# EAGLE library part EP3C40-FBGA484 (library altera)
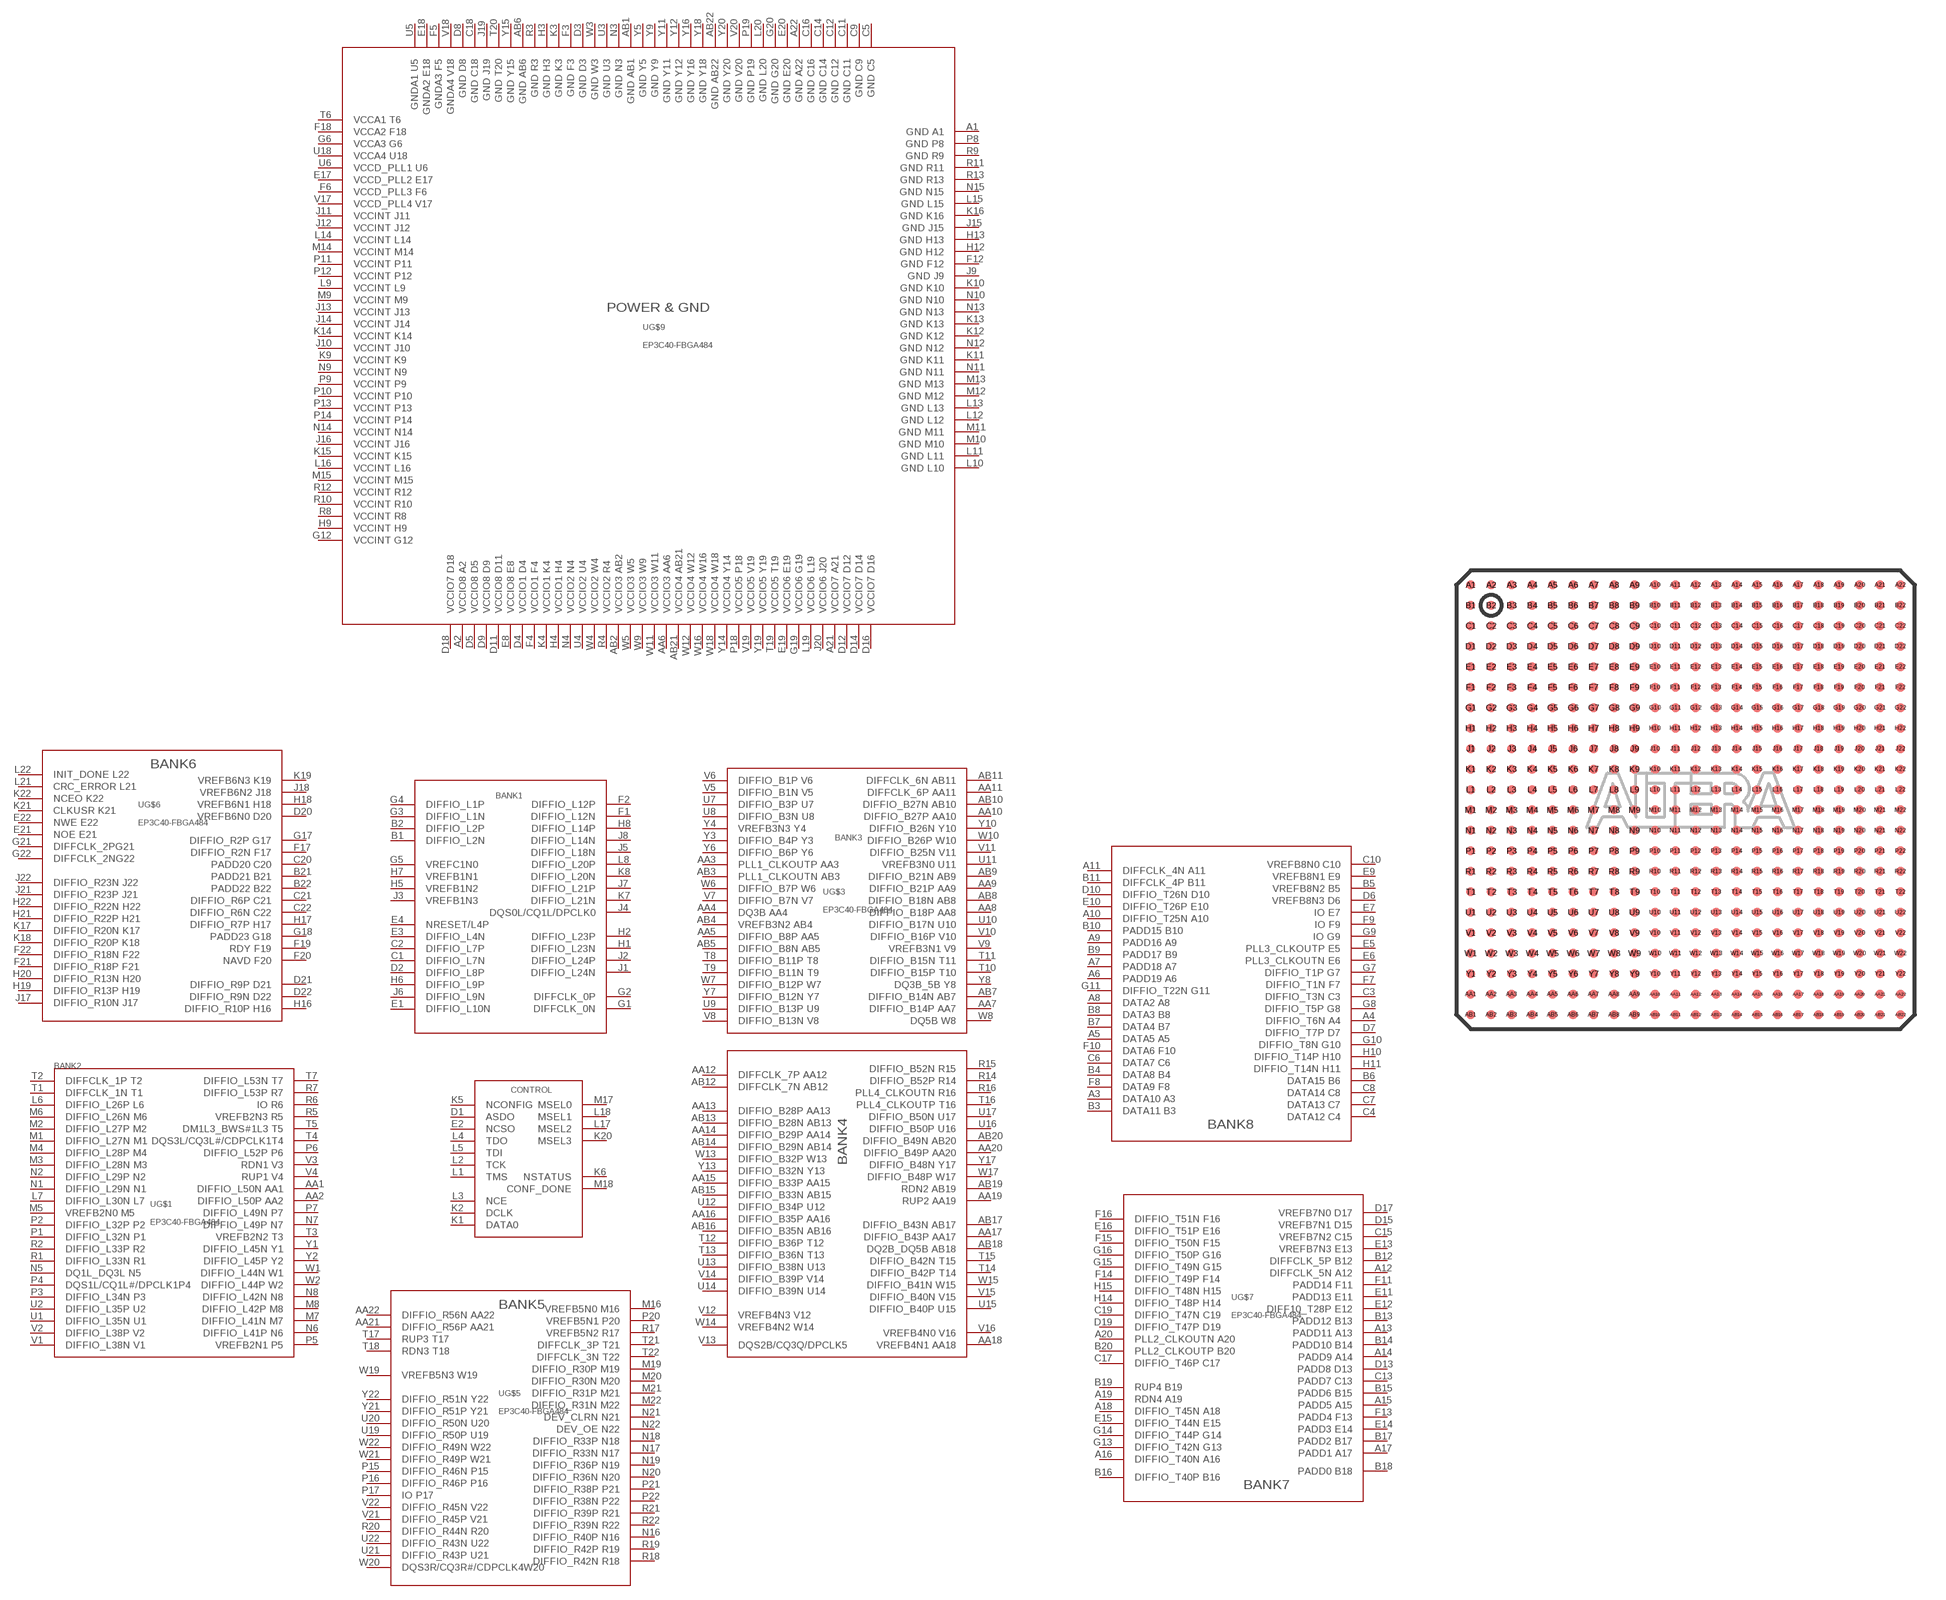
[diagram p59: symbol with the pads of FBGA484; footprint FBGA484]

Designator prefix -; gates G$1=BANK2 G$2=C6 G$3=BANK3 G$4=BANK4 G$5=BANK5 G$6=BANK6 G$7=BANK7 G$8=BANK8 G$9=VCC_GND

## EP3C40-FBGA484  [FBGA484]
A1  G$9:GND	A1
A2  G$9:VCCIO8	A2
A3  G$8:DATA10	A3
A4  G$8:DIFFIO_T6N	A4
A5  G$8:DATA5	A5
A6  G$8:PADD19	A6
A7  G$8:PADD18	A7
A8  G$8:DATA2	A8
A9  G$8:PADD16	A9
A10  G$8:DIFFIO_T25N	A10
A11  G$8:DIFFCLK_4N	A11
A12  G$7:DIFFCLK_5N	A12
A13  G$7:PADD11	A13
A14  G$7:PADD9	A14
A15  G$7:PADD5	A15
A16  G$7:DIFFIO_T40N	A16
A17  G$7:PADD1	A17
A18  G$7:DIFFIO_T45N	A18
A19  G$7:RDN4	A19
A20  G$7:PLL2_CLKOUTN	A20
A21  G$9:VCCIO7	A21
A22  G$9:GND	A22
AA1  G$1:DIFFIO_L50N	AA1
AA2  G$1:DIFFIO_L50P	AA2
AA3  G$3:PLL1_CLKOUTP	AA3
AA4  G$3:DQ3B	AA4
AA5  G$3:DIFFIO_B8P	AA5
AA6  G$9:VCCIO3	AA6
AA7  G$3:DIFFIO_B14P	AA7
AA8  G$3:DIFFIO_B18P	AA8
AA9  G$3:DIFFIO_B21P	AA9
AA10  G$3:DIFFIO_B27P	AA10
AA11  G$3:DIFFCLK_6P	AA11
AA12  G$4:DIFFCLK_7P	AA12
AA13  G$4:DIFFIO_B28P	AA13
AA14  G$4:DIFFIO_B29P	AA14
AA15  G$4:DIFFIO_B33P	AA15
AA16  G$4:DIFFIO_B35P	AA16
AA17  G$4:DIFFIO_B43P	AA17
AA18  G$4:VREFB4N1	AA18
AA19  G$4:RUP2	AA19
AA20  G$4:DIFFIO_B49P	AA20
AA21  G$5:DIFFIO_R56P	AA21
AA22  G$5:DIFFIO_R56N	AA22
AB1  G$9:GND	AB1
AB2  G$9:VCCIO3	AB2
AB3  G$3:PLL1_CLKOUTN	AB3
AB4  G$3:VREFB3N2	AB4
AB5  G$3:DIFFIO_B8N	AB5
AB6  G$9:GND	AB6
AB7  G$3:DIFFIO_B14N	AB7
AB8  G$3:DIFFIO_B18N	AB8
AB9  G$3:DIFFIO_B21N	AB9
AB10  G$3:DIFFIO_B27N	AB10
AB11  G$3:DIFFCLK_6N	AB11
AB12  G$4:DIFFCLK_7N	AB12
AB13  G$4:DIFFIO_B28N	AB13
AB14  G$4:DIFFIO_B29N	AB14
AB15  G$4:DIFFIO_B33N	AB15
AB16  G$4:DIFFIO_B35N	AB16
AB17  G$4:DIFFIO_B43N	AB17
AB18  G$4:DQ2B_DQ5B	AB18
AB19  G$4:RDN2	AB19
AB20  G$4:DIFFIO_B49N	AB20
AB21  G$9:VCCIO4	AB21
AB22  G$9:GND	AB22
B1  G$2:DIFFIO_L2N
B2  G$2:DIFFIO_L2P
B3  G$8:DATA11	B3
B4  G$8:DATA8	B4
B5  G$8:VREFB8N2	B5
B6  G$8:DATA15	B6
B7  G$8:DATA4	B7
B8  G$8:DATA3	B8
B9  G$8:PADD17	B9
B10  G$8:PADD15	B10
B11  G$8:DIFFCLK_4P	B11
B12  G$7:DIFFCLK_5P	B12
B13  G$7:PADD12	B13
B14  G$7:PADD10	B14
B15  G$7:PADD6	B15
B16  G$7:DIFFIO_T40P	B16
B17  G$7:PADD2	B17
B18  G$7:PADD0	B18
B19  G$7:RUP4	B19
B20  G$7:PLL2_CLKOUTP	B20
B21  G$6:PADD21	B21
B22  G$6:PADD22	B22
C1  G$2:DIFFIO_L7N
C2  G$2:DIFFIO_L7P
C3  G$8:DIFFIO_T3N	C3
C4  G$8:DATA12	C4
C5  G$9:GND	C5
C6  G$8:DATA7	C6
C7  G$8:DATA13	C7
C8  G$8:DATA14	C8
C9  G$9:GND	C9
C10  G$8:VREFB8N0	C10
C11  G$9:GND	C11
C12  G$9:GND	C12
C13  G$7:PADD7	C13
C14  G$9:GND	C14
C15  G$7:VREFB7N2	C15
C16  G$9:GND	C16
C17  G$7:DIFFIO_T46P	C17
C18  G$9:GND	C18
C19  G$7:DIFFIO_T47N	C19
C20  G$6:PADD20	C20
C21  G$6:DIFFIO_R6P	C21
C22  G$6:DIFFIO_R6N	C22
D1  G$2:ASDO
D2  G$2:DIFFIO_L8P
D3  G$9:GND	D3
D4  G$9:VCCIO1	D4
D5  G$9:VCCIO8	D5
D6  G$8:VREFB8N3	D6
D7  G$8:DIFFIO_T7P	D7
D8  G$9:GND	D8
D9  G$9:VCCIO8	D9
D10  G$8:DIFFIO_T26N	D10
D11  G$9:VCCIO8	D11
D12  G$9:VCCIO7	D12
D13  G$7:PADD8	D13
D14  G$9:VCCIO7	D14
D15  G$7:VREFB7N1	D15
D16  G$9:VCCIO7	D16
D17  G$7:VREFB7N0	D17
D18  G$9:VCCIO7	D18
D19  G$7:DIFFIO_T47P	D19
D20  G$6:VREFB6N0	D20
D21  G$6:DIFFIO_R9P	D21
D22  G$6:DIFFIO_R9N	D22
E1  G$2:DIFFIO_L10N
E2  G$2:NCSO
E3  G$2:DIFFIO_L4N
E4  G$2:NRESET/L4P
E5  G$8:PLL3_CLKOUTP	E5
E6  G$8:PLL3_CLKOUTN	E6
E7  G$8:IO	E7
E8  G$9:VCCIO8	E8
E9  G$8:VREFB8N1	E9
E10  G$8:DIFFIO_T26P	E10
E11  G$7:PADD13	E11
E12  G$7:DIFF10_T28P	E12
E13  G$7:VREFB7N3	E13
E14  G$7:PADD3	E14
E15  G$7:DIFFIO_T44N	E15
E16  G$7:DIFFIO_T51P	E16
E17  G$9:VCCD_PLL2	E17
E18  G$9:GNDA2	E18
E19  G$9:VCCIO6	E19
E20  G$9:GND	E20
E21  G$6:NOE	E21
E22  G$6:NWE	E22
F1  G$2:DIFFIO_L12N
F2  G$2:DIFFIO_L12P
F3  G$9:GND	F3
F4  G$9:VCCIO1	F4
F5  G$9:GNDA3	F5
F6  G$9:VCCD_PLL3	F6
F7  G$8:DIFFIO_T1N	F7
F8  G$8:DATA9	F8
F9  G$8:IO	F9
F10  G$8:DATA6	F10
F11  G$7:PADD14	F11
F12  G$9:GND	F12
F13  G$7:PADD4	F13
F14  G$7:DIFFIO_T49P	F14
F15  G$7:DIFFIO_T50N	F15
F16  G$7:DIFFIO_T51N	F16
F17  G$6:DIFFIO_R2N	F17
F18  G$9:VCCA2	F18
F19  G$6:RDY	F19
F20  G$6:NAVD	F20
F21  G$6:DIFFIO_R18P	F21
F22  G$6:DIFFIO_R18N	F22
G1  G$2:DIFFCLK_0N
G2  G$2:DIFFCLK_0P
G3  G$2:DIFFIO_L1N
G4  G$2:DIFFIO_L1P
G5  G$2:VREFC1N0
G6  G$9:VCCA3	G6
G7  G$8:DIFFIO_T1P	G7
G8  G$8:DIFFIO_T5P	G8
G9  G$8:IO	G9
G10  G$8:DIFFIO_T8N	G10
G11  G$8:DIFFIO_T22N	G11
G12  G$9:VCCINT	G12
G13  G$7:DIFFIO_T42N	G13
G14  G$7:DIFFIO_T44P	G14
G15  G$7:DIFFIO_T49N	G15
G16  G$7:DIFFIO_T50P	G16
G17  G$6:DIFFIO_R2P	G17
G18  G$6:PADD23	G18
G19  G$9:VCCIO6	G19
G20  G$9:GND	G20
G21  G$6:DIFFCLK_2PG21
G22  G$6:DIFFCLK_2NG22
H1  G$2:DIFFIO_L23N
H2  G$2:DIFFIO_L23P
H3  G$9:GND	H3
H4  G$9:VCCIO1	H4
H5  G$2:VREFB1N2
H6  G$2:DIFFIO_L9P
H7  G$2:VREFB1N1
H8  G$2:DIFFIO_L14P
H9  G$9:VCCINT	H9
H10  G$8:DIFFIO_T14P	H10
H11  G$8:DIFFIO_T14N	H11
H12  G$9:GND	H12
H13  G$9:GND	H13
H14  G$7:DIFFIO_T48P	H14
H15  G$7:DIFFIO_T48N	H15
H16  G$6:DIFFIO_R10P	H16
H17  G$6:DIFFIO_R7P	H17
H18  G$6:VREFB6N1	H18
H19  G$6:DIFFIO_R13P	H19
H20  G$6:DIFFIO_R13N	H20
H21  G$6:DIFFIO_R22P	H21
H22  G$6:DIFFIO_R22N	H22
J1  G$2:DIFFIO_L24N
J2  G$2:DIFFIO_L24P
J3  G$2:VREFB1N3
J4  G$2:DQS0L/CQ1L/DPCLK0
J5  G$2:DIFFIO_L18N
J6  G$2:DIFFIO_L9N
J7  G$2:DIFFIO_L21P
J8  G$2:DIFFIO_L14N
J9  G$9:GND	J9
J10  G$9:VCCINT	J10
J11  G$9:VCCINT	J11
J12  G$9:VCCINT	J12
J13  G$9:VCCINT	J13
J14  G$9:VCCINT	J14
J15  G$9:GND	J15
J16  G$9:VCCINT	J16
J17  G$6:DIFFIO_R10N	J17
J18  G$6:VREFB6N2	J18
J19  G$9:GND	J19
J20  G$9:VCCIO6	J20
J21  G$6:DIFFIO_R23P	J21
J22  G$6:DIFFIO_R23N	J22
K1  G$2:DATA0
K2  G$2:DCLK
K3  G$9:GND	K3
K4  G$9:VCCIO1	K4
K5  G$2:NCONFIG
K6  G$2:NSTATUS
K7  G$2:DIFFIO_L21N
K8  G$2:DIFFIO_L20N
K9  G$9:VCCINT	K9
K10  G$9:GND	K10
K11  G$9:GND	K11
K12  G$9:GND	K12
K13  G$9:GND	K13
K14  G$9:VCCINT	K14
K15  G$9:VCCINT	K15
K16  G$9:GND	K16
K17  G$6:DIFFIO_R20N	K17
K18  G$6:DIFFIO_R20P	K18
K19  G$6:VREFB6N3	K19
K20  G$2:MSEL3
K21  G$6:CLKUSR	K21
K22  G$6:NCEO	K22
L1  G$2:TMS
L2  G$2:TCK
L3  G$2:NCE
L4  G$2:TDO
L5  G$2:TDI
L6  G$1:DIFFIO_L26P	L6
L7  G$1:DIFFIO_L30N	L7
L8  G$2:DIFFIO_L20P
L9  G$9:VCCINT	L9
L10  G$9:GND	L10
L11  G$9:GND	L11
L12  G$9:GND	L12
L13  G$9:GND	L13
L14  G$9:VCCINT	L14
L15  G$9:GND	L15
L16  G$9:VCCINT	L16
L17  G$2:MSEL2
L18  G$2:MSEL1
L19  G$9:VCCIO6	L19
L20  G$9:GND	L20
L21  G$6:CRC_ERROR	L21
L22  G$6:INIT_DONE	L22
M1  G$1:DIFFIO_L27N	M1
M2  G$1:DIFFIO_L27P	M2
M3  G$1:DIFFIO_L28N	M3
M4  G$1:DIFFIO_L28P	M4
M5  G$1:VREFB2N0	M5
M6  G$1:DIFFIO_L26N	M6
M7  G$1:DIFFIO_L41N	M7
M8  G$1:DIFFIO_L42P	M8
M9  G$9:VCCINT	M9
M10  G$9:GND	M10
M11  G$9:GND	M11
M12  G$9:GND	M12
M13  G$9:GND	M13
M14  G$9:VCCINT	M14
M15  G$9:VCCINT	M15
M16  G$5:VREFB5N0	M16
M17  G$2:MSEL0
M18  G$2:CONF_DONE
M19  G$5:DIFFIO_R30P	M19
M20  G$5:DIFFIO_R30N	M20
M21  G$5:DIFFIO_R31P	M21
M22  G$5:DIFFIO_R31N	M22
N1  G$1:DIFFIO_L29N	N1
N2  G$1:DIFFIO_L29P	N2
N3  G$9:GND	N3
N4  G$9:VCCIO2	N4
N5  G$1:DQ1L_DQ3L	N5
N6  G$1:DIFFIO_L41P	N6
N7  G$1:DIFFIO_L49P	N7
N8  G$1:DIFFIO_L42N	N8
N9  G$9:VCCINT	N9
N10  G$9:GND	N10
N11  G$9:GND	N11
N12  G$9:GND	N12
N13  G$9:GND	N13
N14  G$9:VCCINT	N14
N15  G$9:GND	N15
N16  G$5:DIFFIO_R40P	N16
N17  G$5:DIFFIO_R33N	N17
N18  G$5:DIFFIO_R33P	N18
N19  G$5:DIFFIO_R36P	N19
N20  G$5:DIFFIO_R36N	N20
N21  G$5:DEV_CLRN	N21
N22  G$5:DEV_OE	N22
P1  G$1:DIFFIO_L32N	P1
P2  G$1:DIFFIO_L32P	P2
P3  G$1:DIFFIO_L34N	P3
P4  G$1:DQS1L/CQ1L#/DPCLK1P4
P5  G$1:VREFB2N1	P5
P6  G$1:DIFFIO_L52P	P6
P7  G$1:DIFFIO_L49N	P7
P8  G$9:GND	P8
P9  G$9:VCCINT	P9
P10  G$9:VCCINT	P10
P11  G$9:VCCINT	P11
P12  G$9:VCCINT	P12
P13  G$9:VCCINT	P13
P14  G$9:VCCINT	P14
P15  G$5:DIFFIO_R46N	P15
P16  G$5:DIFFIO_R46P	P16
P17  G$5:IO	P17
P18  G$9:VCCIO5	P18
P19  G$9:GND	P19
P20  G$5:VREFB5N1	P20
P21  G$5:DIFFIO_R38P	P21
P22  G$5:DIFFIO_R38N	P22
R1  G$1:DIFFIO_L33N	R1
R2  G$1:DIFFIO_L33P	R2
R3  G$9:GND	R3
R4  G$9:VCCIO2	R4
R5  G$1:VREFB2N3	R5
R6  G$1:IO	R6
R7  G$1:DIFFIO_L53P	R7
R8  G$9:VCCINT	R8
R9  G$9:GND	R9
R10  G$9:VCCINT	R10
R11  G$9:GND	R11
R12  G$9:VCCINT	R12
R13  G$9:GND	R13
R14  G$4:DIFFIO_B52P	R14
R15  G$4:DIFFIO_B52N	R15
R16  G$4:PLL4_CLKOUTN	R16
R17  G$5:VREFB5N2	R17
R18  G$5:DIFFIO_R42N	R18
R19  G$5:DIFFIO_R42P	R19
R20  G$5:DIFFIO_R44N	R20
R21  G$5:DIFFIO_R39P	R21
R22  G$5:DIFFIO_R39N	R22
T1  G$1:DIFFCLK_1N	T1
T2  G$1:DIFFCLK_1P	T2
T3  G$1:VREFB2N2	T3
T4  G$1:DQS3L/CQ3L#/CDPCLK1T4
T5  G$1:DM1L3_BWS#1L3	T5
T6  G$9:VCCA1	T6
T7  G$1:DIFFIO_L53N	T7
T8  G$3:DIFFIO_B11P	T8
T9  G$3:DIFFIO_B11N	T9
T10  G$3:DIFFIO_B15P	T10
T11  G$3:DIFFIO_B15N	T11
T12  G$4:DIFFIO_B36P	T12
T13  G$4:DIFFIO_B36N	T13
T14  G$4:DIFFIO_B42P	T14
T15  G$4:DIFFIO_B42N	T15
T16  G$4:PLL4_CLKOUTP	T16
T17  G$5:RUP3	T17
T18  G$5:RDN3	T18
T19  G$9:VCCIO5	T19
T20  G$9:GND	T20
T21  G$5:DIFFCLK_3P	T21
T22  G$5:DIFFCLK_3N	T22
U1  G$1:DIFFIO_L35N	U1
U2  G$1:DIFFIO_L35P	U2
U3  G$9:GND	U3
U4  G$9:VCCIO2	U4
U5  G$9:GNDA1	U5
U6  G$9:VCCD_PLL1	U6
U7  G$3:DIFFIO_B3P	U7
U8  G$3:DIFFIO_B3N	U8
U9  G$3:DIFFIO_B13P	U9
U10  G$3:DIFFIO_B17N	U10
U11  G$3:VREFB3N0	U11
U12  G$4:DIFFIO_B34P	U12
U13  G$4:DIFFIO_B38N	U13
U14  G$4:DIFFIO_B39N	U14
U15  G$4:DIFFIO_B40P	U15
U16  G$4:DIFFIO_B50P	U16
U17  G$4:DIFFIO_B50N	U17
U18  G$9:VCCA4	U18
U19  G$5:DIFFIO_R50P	U19
U20  G$5:DIFFIO_R50N	U20
U21  G$5:DIFFIO_R43P	U21
U22  G$5:DIFFIO_R43N	U22
V1  G$1:DIFFIO_L38N	V1
V2  G$1:DIFFIO_L38P	V2
V3  G$1:RDN1	V3
V4  G$1:RUP1	V4
V5  G$3:DIFFIO_B1N	V5
V6  G$3:DIFFIO_B1P	V6
V7  G$3:DIFFIO_B7N	V7
V8  G$3:DIFFIO_B13N	V8
V9  G$3:VREFB3N1	V9
V10  G$3:DIFFIO_B16P	V10
V11  G$3:DIFFIO_B25N	V11
V12  G$4:VREFB4N3	V12
V13  G$4:DQS2B/CQ3Q/DPCLK5
V14  G$4:DIFFIO_B39P	V14
V15  G$4:DIFFIO_B40N	V15
V16  G$4:VREFB4N0	V16
V17  G$9:VCCD_PLL4	V17
V18  G$9:GNDA4	V18
V19  G$9:VCCIO5	V19
V20  G$9:GND	V20
V21  G$5:DIFFIO_R45P	V21
V22  G$5:DIFFIO_R45N	V22
W1  G$1:DIFFIO_L44N	W1
W2  G$1:DIFFIO_L44P	W2
W3  G$9:GND	W3
W4  G$9:VCCIO2	W4
W5  G$9:VCCIO3	W5
W6  G$3:DIFFIO_B7P	W6
W7  G$3:DIFFIO_B12P	W7
W8  G$3:DQ5B	W8
W9  G$9:VCCIO3	W9
W10  G$3:DIFFIO_B26P	W10
W11  G$9:VCCIO3	W11
W12  G$9:VCCIO4	W12
W13  G$4:DIFFIO_B32P	W13
W14  G$4:VREFB4N2	W14
W15  G$4:DIFFIO_B41N	W15
W16  G$9:VCCIO4	W16
W17  G$4:DIFFIO_B48P	W17
W18  G$9:VCCIO4	W18
W19  G$5:VREFB5N3	W19
W20  G$5:DQS3R/CQ3R#/CDPCLK4W20
W21  G$5:DIFFIO_R49P	W21
W22  G$5:DIFFIO_R49N	W22
Y1  G$1:DIFFIO_L45N	Y1
Y2  G$1:DIFFIO_L45P	Y2
Y3  G$3:DIFFIO_B4P	Y3
Y4  G$3:VREFB3N3	Y4
Y5  G$9:GND	Y5
Y6  G$3:DIFFIO_B6P	Y6
Y7  G$3:DIFFIO_B12N	Y7
Y8  G$3:DQ3B_5B	Y8
Y9  G$9:GND	Y9
Y10  G$3:DIFFIO_B26N	Y10
Y11  G$9:GND	Y11
Y12  G$9:GND	Y12
Y13  G$4:DIFFIO_B32N	Y13
Y14  G$9:VCCIO4	Y14
Y15  G$9:GND	Y15
Y16  G$9:GND	Y16
Y17  G$4:DIFFIO_B48N	Y17
Y18  G$9:GND	Y18
Y19  G$9:VCCIO5	Y19
Y20  G$9:GND	Y20
Y21  G$5:DIFFIO_R51P	Y21
Y22  G$5:DIFFIO_R51N	Y22

## Footprint FBGA484 (pad centres in mm)
Fine Ball Grid Array
smd 0.45 x 0.45: A1 -10.5,10.5; A2 -9.5,10.5; A3 -8.5,10.5; A4 -7.5,10.5; A5 -6.5,10.5; A6 -5.5,10.5; A7 -4.5,10.5; A8 -3.5,10.5; A9 -2.5,10.5; A10 -1.5,10.5; A11 -0.5,10.5; A12 0.5,10.5; A13 1.5,10.5; A14 2.5,10.5; A15 3.5,10.5; A16 4.5,10.5; A17 5.5,10.5; A18 6.5,10.5; A19 7.5,10.5; A20 8.5,10.5; A21 9.5,10.5; A22 10.5,10.5; AA1 -10.5,-9.5; AA2 -9.5,-9.5; AA3 -8.5,-9.5; AA4 -7.5,-9.5; AA5 -6.5,-9.5; AA6 -5.5,-9.5; AA7 -4.5,-9.5; AA8 -3.5,-9.5; AA9 -2.5,-9.5; AA10 -1.5,-9.5; AA11 -0.5,-9.5; AA12 0.5,-9.5; AA13 1.5,-9.5; AA14 2.5,-9.5; AA15 3.5,-9.5; AA16 4.5,-9.5; AA17 5.5,-9.5; AA18 6.5,-9.5; AA19 7.5,-9.5; AA20 8.5,-9.5; AA21 9.5,-9.5; AA22 10.5,-9.5; AB1 -10.5,-10.5; AB2 -9.5,-10.5; AB3 -8.5,-10.5; AB4 -7.5,-10.5; AB5 -6.5,-10.5; AB6 -5.5,-10.5; AB7 -4.5,-10.5; AB8 -3.5,-10.5; AB9 -2.5,-10.5; AB10 -1.5,-10.5; AB11 -0.5,-10.5; AB12 0.5,-10.5; AB13 1.5,-10.5; AB14 2.5,-10.5; AB15 3.5,-10.5; AB16 4.5,-10.5; AB17 5.5,-10.5; AB18 6.5,-10.5; AB19 7.5,-10.5; AB20 8.5,-10.5; AB21 9.5,-10.5; AB22 10.5,-10.5; B1 -10.5,9.5; B2 -9.5,9.5; B3 -8.5,9.5; B4 -7.5,9.5; B5 -6.5,9.5; B6 -5.5,9.5; B7 -4.5,9.5; B8 -3.5,9.5; B9 -2.5,9.5; B10 -1.5,9.5; B11 -0.5,9.5; B12 0.5,9.5; B13 1.5,9.5; B14 2.5,9.5; B15 3.5,9.5; B16 4.5,9.5; B17 5.5,9.5; B18 6.5,9.5; B19 7.5,9.5; B20 8.5,9.5; B21 9.5,9.5; B22 10.5,9.5; C1 -10.5,8.5; C2 -9.5,8.5; C3 -8.5,8.5; C4 -7.5,8.5; C5 -6.5,8.5; C6 -5.5,8.5; C7 -4.5,8.5; C8 -3.5,8.5; C9 -2.5,8.5; C10 -1.5,8.5; C11 -0.5,8.5; C12 0.5,8.5; C13 1.5,8.5; C14 2.5,8.5; C15 3.5,8.5; C16 4.5,8.5; C17 5.5,8.5; C18 6.5,8.5; C19 7.5,8.5; C20 8.5,8.5; C21 9.5,8.5; C22 10.5,8.5; D1 -10.5,7.5; D2 -9.5,7.5; D3 -8.5,7.5; D4 -7.5,7.5; D5 -6.5,7.5; D6 -5.5,7.5; D7 -4.5,7.5; D8 -3.5,7.5; D9 -2.5,7.5; D10 -1.5,7.5; D11 -0.5,7.5; D12 0.5,7.5; D13 1.5,7.5; D14 2.5,7.5; D15 3.5,7.5; D16 4.5,7.5; D17 5.5,7.5; D18 6.5,7.5; D19 7.5,7.5; D20 8.5,7.5; D21 9.5,7.5; D22 10.5,7.5; E1 -10.5,6.5; E2 -9.5,6.5; E3 -8.5,6.5; E4 -7.5,6.5; E5 -6.5,6.5; E6 -5.5,6.5; E7 -4.5,6.5; E8 -3.5,6.5; E9 -2.5,6.5; E10 -1.5,6.5; E11 -0.5,6.5; E12 0.5,6.5; E13 1.5,6.5; E14 2.5,6.5; E15 3.5,6.5; E16 4.5,6.5; E17 5.5,6.5; E18 6.5,6.5; E19 7.5,6.5; E20 8.5,6.5; E21 9.5,6.5; E22 10.5,6.5; F1 -10.5,5.5; F2 -9.5,5.5; F3 -8.5,5.5; F4 -7.5,5.5; F5 -6.5,5.5; F6 -5.5,5.5; F7 -4.5,5.5; F8 -3.5,5.5; F9 -2.5,5.5; F10 -1.5,5.5; F11 -0.5,5.5; F12 0.5,5.5; F13 1.5,5.5; F14 2.5,5.5; F15 3.5,5.5; F16 4.5,5.5; F17 5.5,5.5; F18 6.5,5.5; F19 7.5,5.5; F20 8.5,5.5; F21 9.5,5.5; F22 10.5,5.5; G1 -10.5,4.5; G2 -9.5,4.5; G3 -8.5,4.5; G4 -7.5,4.5; G5 -6.5,4.5; G6 -5.5,4.5; G7 -4.5,4.5; G8 -3.5,4.5; G9 -2.5,4.5; G10 -1.5,4.5; G11 -0.5,4.5; G12 0.5,4.5; G13 1.5,4.5; G14 2.5,4.5; G15 3.5,4.5; G16 4.5,4.5; G17 5.5,4.5; G18 6.5,4.5; G19 7.5,4.5; G20 8.5,4.5; G21 9.5,4.5; G22 10.5,4.5; H1 -10.5,3.5; H2 -9.5,3.5; H3 -8.5,3.5; H4 -7.5,3.5; H5 -6.5,3.5; H6 -5.5,3.5; H7 -4.5,3.5; H8 -3.5,3.5; H9 -2.5,3.5; H10 -1.5,3.5; H11 -0.5,3.5; H12 0.5,3.5; H13 1.5,3.5; H14 2.5,3.5; H15 3.5,3.5; H16 4.5,3.5; H17 5.5,3.5; H18 6.5,3.5; H19 7.5,3.5; H20 8.5,3.5; H21 9.5,3.5; H22 10.5,3.5; J1 -10.5,2.5; J2 -9.5,2.5; J3 -8.5,2.5; J4 -7.5,2.5; J5 -6.5,2.5; J6 -5.5,2.5; J7 -4.5,2.5; J8 -3.5,2.5; J9 -2.5,2.5; J10 -1.5,2.5; J11 -0.5,2.5; J12 0.5,2.5; J13 1.5,2.5; J14 2.5,2.5; J15 3.5,2.5; J16 4.5,2.5; J17 5.5,2.5; J18 6.5,2.5; J19 7.5,2.5; J20 8.5,2.5; J21 9.5,2.5; J22 10.5,2.5; K1 -10.5,1.5; K2 -9.5,1.5; K3 -8.5,1.5; K4 -7.5,1.5; K5 -6.5,1.5; K6 -5.5,1.5; K7 -4.5,1.5; K8 -3.5,1.5; K9 -2.5,1.5; K10 -1.5,1.5; K11 -0.5,1.5; K12 0.5,1.5; K13 1.5,1.5; K14 2.5,1.5; K15 3.5,1.5; K16 4.5,1.5; K17 5.5,1.5; K18 6.5,1.5; K19 7.5,1.5; K20 8.5,1.5; K21 9.5,1.5; K22 10.5,1.5; L1 -10.5,0.5; L2 -9.5,0.5; L3 -8.5,0.5; L4 -7.5,0.5; L5 -6.5,0.5; L6 -5.5,0.5; L7 -4.5,0.5; L8 -3.5,0.5; L9 -2.5,0.5; L10 -1.5,0.5; L11 -0.5,0.5; L12 0.5,0.5; L13 1.5,0.5; L14 2.5,0.5; L15 3.5,0.5; L16 4.5,0.5; L17 5.5,0.5; L18 6.5,0.5; L19 7.5,0.5; L20 8.5,0.5; L21 9.5,0.5; L22 10.5,0.5; M1 -10.5,-0.5; M2 -9.5,-0.5; M3 -8.5,-0.5; M4 -7.5,-0.5; M5 -6.5,-0.5; M6 -5.5,-0.5; M7 -4.5,-0.5; M8 -3.5,-0.5; M9 -2.5,-0.5; M10 -1.5,-0.5; M11 -0.5,-0.5; M12 0.5,-0.5; M13 1.5,-0.5; M14 2.5,-0.5; M15 3.5,-0.5; M16 4.5,-0.5; M17 5.5,-0.5; M18 6.5,-0.5; M19 7.5,-0.5; M20 8.5,-0.5; M21 9.5,-0.5; M22 10.5,-0.5; N1 -10.5,-1.5; N2 -9.5,-1.5; N3 -8.5,-1.5; N4 -7.5,-1.5; N5 -6.5,-1.5; N6 -5.5,-1.5; N7 -4.5,-1.5; N8 -3.5,-1.5; N9 -2.5,-1.5; N10 -1.5,-1.5; N11 -0.5,-1.5; N12 0.5,-1.5; N13 1.5,-1.5; N14 2.5,-1.5; N15 3.5,-1.5; N16 4.5,-1.5; N17 5.5,-1.5; N18 6.5,-1.5; N19 7.5,-1.5; N20 8.5,-1.5; N21 9.5,-1.5; N22 10.5,-1.5; P1 -10.5,-2.5; P2 -9.5,-2.5; P3 -8.5,-2.5; P4 -7.5,-2.5; P5 -6.5,-2.5; P6 -5.5,-2.5; P7 -4.5,-2.5; P8 -3.5,-2.5; P9 -2.5,-2.5; P10 -1.5,-2.5; P11 -0.5,-2.5; P12 0.5,-2.5; P13 1.5,-2.5; P14 2.5,-2.5; P15 3.5,-2.5; P16 4.5,-2.5; P17 5.5,-2.5; P18 6.5,-2.5; P19 7.5,-2.5; P20 8.5,-2.5; P21 9.5,-2.5; P22 10.5,-2.5; R1 -10.5,-3.5; R2 -9.5,-3.5; R3 -8.5,-3.5; R4 -7.5,-3.5; R5 -6.5,-3.5; R6 -5.5,-3.5; R7 -4.5,-3.5; R8 -3.5,-3.5; R9 -2.5,-3.5; R10 -1.5,-3.5; R11 -0.5,-3.5; R12 0.5,-3.5; R13 1.5,-3.5; R14 2.5,-3.5; R15 3.5,-3.5; R16 4.5,-3.5; R17 5.5,-3.5; R18 6.5,-3.5; R19 7.5,-3.5; R20 8.5,-3.5; R21 9.5,-3.5; R22 10.5,-3.5; T1 -10.5,-4.5; T2 -9.5,-4.5; T3 -8.5,-4.5; T4 -7.5,-4.5; T5 -6.5,-4.5; T6 -5.5,-4.5; T7 -4.5,-4.5; T8 -3.5,-4.5; T9 -2.5,-4.5; T10 -1.5,-4.5; T11 -0.5,-4.5; T12 0.5,-4.5; T13 1.5,-4.5; T14 2.5,-4.5; T15 3.5,-4.5; T16 4.5,-4.5; T17 5.5,-4.5; T18 6.5,-4.5; T19 7.5,-4.5; T20 8.5,-4.5; T21 9.5,-4.5; T22 10.5,-4.5; U1 -10.5,-5.5; U2 -9.5,-5.5; U3 -8.5,-5.5; U4 -7.5,-5.5; U5 -6.5,-5.5; U6 -5.5,-5.5; U7 -4.5,-5.5; U8 -3.5,-5.5; U9 -2.5,-5.5; U10 -1.5,-5.5; U11 -0.5,-5.5; U12 0.5,-5.5; U13 1.5,-5.5; U14 2.5,-5.5; U15 3.5,-5.5; U16 4.5,-5.5; U17 5.5,-5.5; U18 6.5,-5.5; U19 7.5,-5.5; U20 8.5,-5.5; U21 9.5,-5.5; U22 10.5,-5.5; V1 -10.5,-6.5; V2 -9.5,-6.5; V3 -8.5,-6.5; V4 -7.5,-6.5; V5 -6.5,-6.5; V6 -5.5,-6.5; V7 -4.5,-6.5; V8 -3.5,-6.5; V9 -2.5,-6.5; V10 -1.5,-6.5; V11 -0.5,-6.5; V12 0.5,-6.5; V13 1.5,-6.5; V14 2.5,-6.5; V15 3.5,-6.5; V16 4.5,-6.5; V17 5.5,-6.5; V18 6.5,-6.5; V19 7.5,-6.5; V20 8.5,-6.5; V21 9.5,-6.5; V22 10.5,-6.5; W1 -10.5,-7.5; W2 -9.5,-7.5; W3 -8.5,-7.5; W4 -7.5,-7.5; W5 -6.5,-7.5; W6 -5.5,-7.5; W7 -4.5,-7.5; W8 -3.5,-7.5; W9 -2.5,-7.5; W10 -1.5,-7.5; W11 -0.5,-7.5; W12 0.5,-7.5; W13 1.5,-7.5; W14 2.5,-7.5; W15 3.5,-7.5; W16 4.5,-7.5; W17 5.5,-7.5; W18 6.5,-7.5; W19 7.5,-7.5; W20 8.5,-7.5; W21 9.5,-7.5; W22 10.5,-7.5; Y1 -10.5,-8.5; Y2 -9.5,-8.5; Y3 -8.5,-8.5; Y4 -7.5,-8.5; Y5 -6.5,-8.5; Y6 -5.5,-8.5; Y7 -4.5,-8.5; Y8 -3.5,-8.5; Y9 -2.5,-8.5; Y10 -1.5,-8.5; Y11 -0.5,-8.5; Y12 0.5,-8.5; Y13 1.5,-8.5; Y14 2.5,-8.5; Y15 3.5,-8.5; Y16 4.5,-8.5; Y17 5.5,-8.5; Y18 6.5,-8.5; Y19 7.5,-8.5; Y20 8.5,-8.5; Y21 9.5,-8.5; Y22 10.5,-8.5